# Altium schematic symbol library ASEM1-1.8432MHZ-LC-T.SchLib: 1 symbol
Pins are listed as number, name and electrical type; pins without a type are passive.

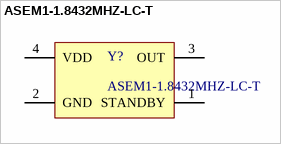
[diagram p0: symbol ASEM1-1.8432MHZ-LC-T]

## ASEM1-1.8432MHZ-LC-T
designator Y?
pins: 1 STANDBY, 2 GND, 3 hidden, 3 OUT, 4 VDD